# Altium schematic symbol library SCH - CONNECTORS - DSUB 25P.SchLib: 1 symbol
Pins are listed as number, name and electrical type; pins without a type are passive.

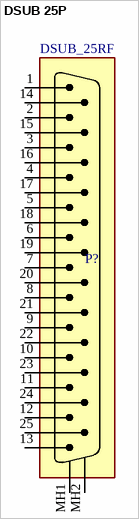
[diagram p0: symbol DSUB 25P]

## DSUB 25P
designator P?, comment DSUB_25RF
MANF_P#: -; MANF: -; VALUE: DSUB_25RF
pins: 1, 2, 3, 4, 5, 6, 7, 8, 9, 10, 11, 12, 13, 14, 15, 16, 17, 18, 19, 20, 21, 22, 23, 24, 25, MH1, MH2